# Altium footprint library TCCH80.PcbLib: 1 footprints
Each footprint in its own frame and in the unit in brackets; x right, y up, seen from the top. Pads: shape width x height; smd on the part's side, far side on the other; paste and mask are expansions set on the pad; w line width, h text height; cw(c..) or ccw(c..) is an arc to the next point about the centre after c.
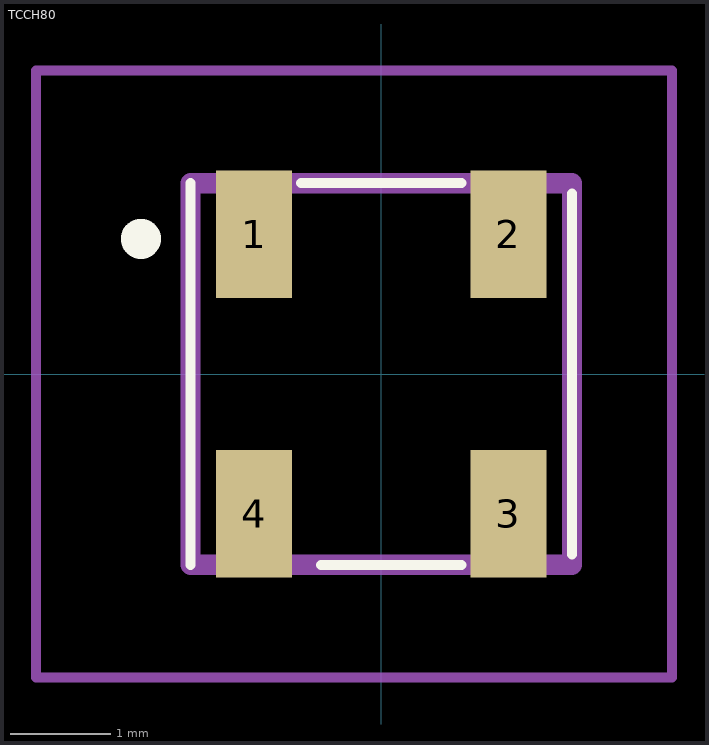
[diagram p0: the footprint, top view; thin cyan lines are the x and y axes]

## TCCH80 [mm]
pads (4):
  rect 0.76x1.27 smd: 1(-1.27,1.395) 2(1.27,1.395) 3(1.27,-1.395) 4(-1.27,-1.395)
Top Overlay:
  lines w0.1: -1.905,-1.905 -1.905,1.905 ; -0.8,1.905 0.8,1.905 ; -0.6,-1.905 0.8,-1.905 ; 1.905,-1.8 1.905,1.8
  lines w0.3: -2.4,1.3 -2.4,1.3 ; -2.4,1.3 ccw(c-2.4,1.35) -2.4,1.4 ; -2.4,1.3 cw(c-2.4,1.35) -2.4,1.4 ; -2.4,1.4 -2.4,1.4
Mechanical 15:
  lines w0.2: -1.905,-1.905 1.905,-1.905 1.905,1.905 -1.905,1.905 -1.905,-1.905
Mechanical 20:
  lines w0.1: -3.45,-3.03 2.905,-3.03 2.905,3.03 -3.45,3.03 -3.45,-3.03